# EAGLE library part MIC2026 (library hosho)
LM3526 Dual Port USB Power Switch and Over-Current Protection Features: -> Compatible with USB1.1 and USB2.0; -> 1 ms fault flag delay filters Hot-Plug events; -> Smooth turn-on eliminates in-rush induced voltage drop; -> UL recognized component: REF#205202; -> 1A nominal shortcircuit output current protects PC power supplies; -> Thermal shutdown protects device in direct short condition; -> 500mA minimum continuous load current; -> Small SO-8 package minimizes board space; -> 2.7V to 5.5V input voltage range; -> 140mOhm Max.switch resistance; -> 1 µA Max. standby current; -> 200µA Max. operating current; -> Under-voltage lockout(UVLO);
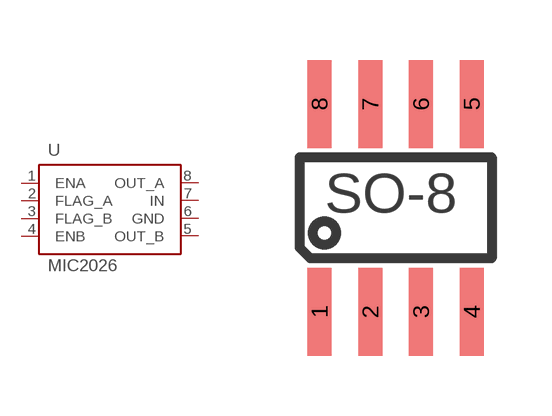
[diagram p14: symbol with the pads of SO-8; footprint SO-8]

Designator prefix U

## MIC2026-1YM  [SO-8]
1  ENA  in
2  FLAG_A  oc
3  FLAG_B  oc
4  ENB  in
5  OUT_B  out
6  GND  pwr
7  IN  in
8  OUT_A  out

## Footprint SO-8 (pad centres in mm)
SO-8 Pitch: 1.27mm; Pad Width: 0.6mm; Pad Length: 2.2mm; Pad Distance(out edge to out edge): 6.20mm; Dimensions:4.90x3.90mm;
smd 0.6 x 2.2: 1 -1.905,-2.6; 2 -0.635,-2.6; 3 0.635,-2.6; 4 1.905,-2.6; 5 1.905,2.6; 6 0.635,2.6; 7 -0.635,2.6; 8 -1.905,2.6